# Altium footprint library Pattern No3d 20090609.PcbLib: 323 footprints (part 22 of 22)
Each footprint in its own frame and in the unit in brackets; x right, y up, seen from the top. Pads: shape width x height; smd on the part's side, far side on the other; paste and mask are expansions set on the pad; w line width, h text height; cw(c..) or ccw(c..) is an arc to the next point about the centre after c.
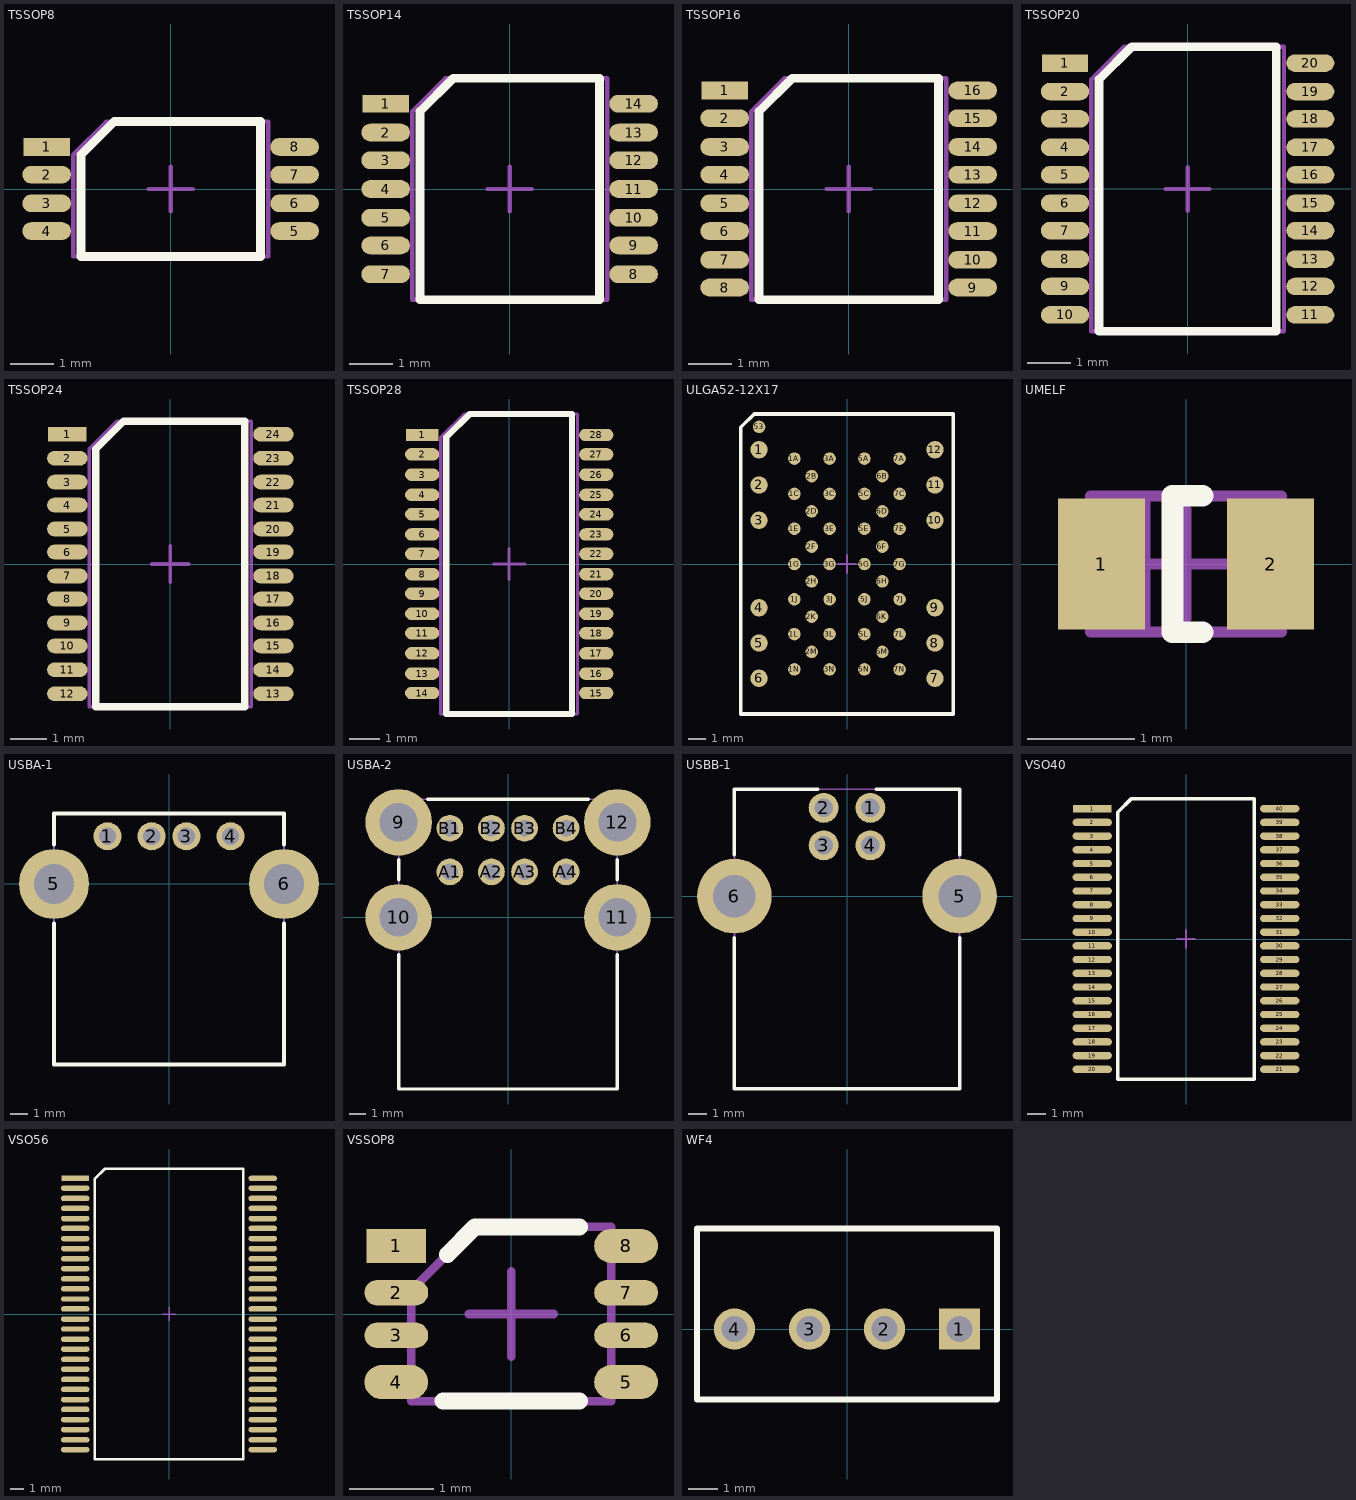
[diagram p21: the footprints below, top view; thin cyan lines are the x and y axes]

## TSSOP8 [mil] "http://www.nxp.com/acrobat_download/packages/SOT530-1.pdf"
pads (8):
  rect 42x16 smd mask-1000: 1(-112,38)
  oval 44x16 smd mask-1000: 2(-112,13) 3(-112,-13) 4(-112,-38) 5(112,-38) 6(112,-13) 7(112,13) 8(112,38)
Top Overlay:
  lines w8: -81,-61 -81,31 -51,61 81,61 81,-61 -81,-61
Top Solder:
  region: -137,29 -87,29 -87,49 -137,49
  lines w18: -129,-13 -95,-13 ; -129,13 -95,13 ; 95,-13 129,-13 ; 95,13 129,13
  lines w20: -128,-39 -96,-39 ; 96,-39 128,-39 ; 96,39 128,39
Mechanical 1:
  lines w4: -88,-61 -88,31 -58,61 88,61 88,-61 -88,-61
Mechanical 15:
  lines w4: -20,0 20,0 ; 0,-20 0,20

## TSSOP14 [mil] "http://www.nxp.com/acrobat_download/packages/SOT402-1.pdf"
pads (14):
  rect 42x16 smd mask-1000: 1(-112,77)
  oval 44x16 smd mask-1000: 2(-112,51) 3(-112,26) 4(-112,0) 5(-112,-26) 6(-112,-51) 7(-112,-77) 8(112,-77) 9(112,-51) 10(112,-26) 11(112,0) 12(112,26) 13(112,51) 14(112,77)
Top Overlay:
  lines w8: -81,-100 -81,70 -51,100 81,100 81,-100 -81,-100
Top Solder:
  region: -137,68 -87,68 -87,88 -137,88
  lines w18: -129,-51 -95,-51 ; -129,-26 -95,-26 ; -129,0 -95,0 ; -129,26 -95,26 ; -129,51 -95,51 ; 95,-51 129,-51 ; 95,-26 129,-26 ; 95,0 129,0 ; 95,26 129,26 ; 95,51 129,51
  lines w20: -128,-78 -96,-78 ; 96,-78 128,-78 ; 96,78 128,78
Mechanical 1:
  lines w4: -88,-100 -88,70 -58,100 88,100 88,-100 -88,-100
Mechanical 15:
  lines w4: -20,0 20,0 ; 0,-20 0,20

## TSSOP16 [mil] "http://www.nxp.com/acrobat_download/packages/SOT403-1.pdf"
pads (16):
  rect 42x16 smd mask-1000: 1(-112,89)
  oval 44x16 smd mask-1000: 2(-112,64) 3(-112,38) 4(-112,13) 5(-112,-13) 6(-112,-38) 7(-112,-64) 8(-112,-89) 9(112,-89) 10(112,-64) 11(112,-38) 12(112,-13) 13(112,13) 14(112,38) 15(112,64) 16(112,89)
Top Overlay:
  lines w8: -81,-100 81,-100 81,100 -51,100 -81,70 -81,-100
Top Solder:
  region: -137,80 -87,80 -87,100 -137,100
  lines w18: -129,-64 -95,-64 ; -129,-38 -95,-38 ; -129,-13 -95,-13 ; -129,13 -95,13 ; -129,38 -95,38 ; -129,64 -95,64 ; 95,-64 129,-64 ; 95,-38 129,-38 ; 95,-13 129,-13 ; 95,13 129,13 ; 95,38 129,38 ; 95,64 129,64
  lines w20: -128,-90 -96,-90 ; 96,-90 128,-90 ; 96,90 128,90
Mechanical 1:
  lines w4: -88,-100 88,-100 88,100 -58,100 -88,70 -88,-100
Mechanical 15:
  lines w4: -20,0 20,0 ; 0,-20 0,20

## TSSOP20 [mil] "http://www.nxp.com/acrobat_download/packages/SOT360-1.pdf"
pads (20):
  rect 42x16 smd mask-1000: 1(-112,115)
  oval 44x16 smd mask-1000: 2(-112,89) 3(-112,64) 4(-112,38) 5(-112,13) 6(-112,-13) 7(-112,-38) 8(-112,-64) 9(-112,-89) 10(-112,-115) 11(112,-115) 12(112,-89) 13(112,-64) 14(112,-38) 15(112,-13) 16(112,13) 17(112,38) 18(112,64) 19(112,89) 20(112,115)
Top Overlay:
  lines w8: -81,-130 -81,100 -51,130 81,130 81,-130 -81,-130
Top Solder:
  region: -137,106 -87,106 -87,126 -137,126
  lines w18: -129,-89 -95,-89 ; -129,-64 -95,-64 ; -129,-38 -95,-38 ; -129,-13 -95,-13 ; -129,13 -95,13 ; -129,38 -95,38 ; -129,64 -95,64 ; -129,89 -95,89 ; 95,-89 129,-89 ; 95,-64 129,-64 ; 95,-38 129,-38 ; 95,-13 129,-13 ; 95,13 129,13 ; 95,38 129,38 ; 95,64 129,64 ; 95,89 129,89
  lines w20: -128,-116 -96,-116 ; 96,-116 128,-116 ; 96,116 128,116
Mechanical 1:
  lines w4: -88,-130 -88,100 -58,130 88,130 88,-130 -88,-130
Mechanical 15:
  lines w4: -20,0 20,0 ; 0,-20 0,20

## TSSOP24 [mil] "http://www.nxp.com/acrobat_download/packages/SOT355-1.pdf"
pads (24):
  rect 42x16 smd mask-1000: 1(-112,141)
  oval 44x16 smd mask-1000: 2(-112,115) 3(-112,89) 4(-112,64) 5(-112,38) 6(-112,13) 7(-112,-13) 8(-112,-38) 9(-112,-64) 10(-112,-89) 11(-112,-115) 12(-112,-141) 13(112,-141) 14(112,-115) 15(112,-89) 16(112,-64) 17(112,-38) 18(112,-13) 19(112,13) 20(112,38) 21(112,64) 22(112,89) 23(112,115) 24(112,141)
Top Overlay:
  lines w8: -81,-155 -81,125 -51,155 81,155 81,-155 -81,-155
Top Solder:
  region: -137,132 -87,132 -87,152 -137,152
  lines w18: -129,-115 -95,-115 ; -129,-89 -95,-89 ; -129,-64 -95,-64 ; -129,-38 -95,-38 ; -129,-13 -95,-13 ; -129,13 -95,13 ; -129,38 -95,38 ; -129,64 -95,64 ; -129,89 -95,89 ; -129,115 -95,115 ; 95,-115 129,-115 ; 95,-89 129,-89 ; 95,-64 129,-64 ; 95,-38 129,-38 ; 95,-13 129,-13 ; 95,13 129,13 ; 95,38 129,38 ; 95,64 129,64 ; 95,89 129,89 ; 95,115 129,115
  lines w20: -128,-142 -96,-142 ; 96,-142 128,-142 ; 96,142 128,142
Mechanical 1:
  lines w4: -88,-155 -88,125 -58,155 88,155 88,-155 -88,-155
Mechanical 15:
  lines w4: -20,0 20,0 ; 0,-20 0,20

## TSSOP28 [mil] "http://www.nxp.com/acrobat_download/packages/SOT361-1.pdf"
pads (28):
  rect 42x16 smd mask-1000: 1(-112,166)
  oval 44x16 smd mask-1000: 2(-112,141) 3(-112,115) 4(-112,89) 5(-112,64) 6(-112,38) 7(-112,13) 8(-112,-13) 9(-112,-38) 10(-112,-64) 11(-112,-89) 12(-112,-115) 13(-112,-141) 14(-112,-166) 15(112,-166) 16(112,-141) 17(112,-115) 18(112,-89) 19(112,-64) 20(112,-38) 21(112,-13) 22(112,13) 23(112,38) 24(112,64) 25(112,89) 26(112,115) 27(112,141) 28(112,166)
Top Overlay:
  lines w8: -81,-193 -81,163 -51,193 81,193 81,-193 -81,-193
Top Solder:
  region: -137,157 -87,157 -87,177 -137,177
  lines w18: -129,-141 -95,-141 ; -129,-115 -95,-115 ; -129,-89 -95,-89 ; -129,-64 -95,-64 ; -129,-38 -95,-38 ; -129,-13 -95,-13 ; -129,13 -95,13 ; -129,38 -95,38 ; -129,64 -95,64 ; -129,89 -95,89 ; -129,115 -95,115 ; -129,141 -95,141 ; 95,-141 129,-141 ; 95,-115 129,-115 ; 95,-89 129,-89 ; 95,-64 129,-64 ; 95,-38 129,-38 ; 95,-13 129,-13 ; 95,13 129,13 ; 95,38 129,38 ; 95,64 129,64 ; 95,89 129,89 ; 95,115 129,115 ; 95,141 129,141
  lines w20: -128,-167 -96,-167 ; 96,-167 128,-167 ; 96,167 128,167
Mechanical 1:
  lines w4: -88,-193 -88,163 -58,193 88,193 88,-193 -88,-193
Mechanical 15:
  lines w4: -20,0 20,0 ; 0,-20 0,20

## ULGA52-12X17 [mil] "http://www.samsung.com/global/system/business/semiconductor/package/2008/8/18/68150852_ULGA_1217.pdf"
pads (53):
  round 39 smd mask+3: 1(-197,256) 2(-197,177) 3(-197,98) 4(-197,-98) 5(-197,-177) 6(-197,-256) 7(197,-256) 8(197,-177) 9(197,-98) 10(197,98) 11(197,177) 12(197,256)
  round 28 smd mask+3: 1A(-118,236) 1C(-118,157) 1E(-118,79) 1G(-118,0) 1J(-118,-79) 1L(-118,-157) 1N(-118,-236) 2B(-79,197) 2D(-79,118) 2F(-79,39) 2H(-79,-39) 2K(-79,-118) 2M(-79,-197) 3A(-39,236) 3C(-39,157) 3E(-39,79) 3G(-39,0) 3J(-39,-79) 3L(-39,-157) 3N(-39,-236) 5A(39,236) 5C(39,157) 5E(39,79) 5G(39,0) 5J(39,-79) 5L(39,-157) 5N(39,-236) 6B(79,197) 6D(79,118) 6F(79,39) 6H(79,-39) 6K(79,-118) 6M(79,-197) 7A(118,236) 7C(118,157) 7E(118,79) 7G(118,0) 7J(118,-79) 7L(118,-157) 7N(118,-236) 53(-197,307)
Top Overlay:
  lines w8: -238,-336 -238,306 -208,336 238,336 238,-336 -238,-336
Mechanical 1:
  lines w4: -238,-336 -238,306 -208,336 238,336 238,-336 -238,-336
Mechanical 15:
  lines w4: -20,0 20,0 ; 0,-20 0,20

## UMELF [mil] "http://www.vishay.com/docs/84024/micrmelf.pdf"
pads (2):
  rect 32x48 smd mask+4: 1(-31,0) 2(31,0)
Top Overlay:
  lines w8: 6,-25 -5,-25 -5,25 6,25
Mechanical 1:
  lines w4: -15,-25 -15,25 ; -35,-25 35,-25 35,25 -35,25 -35,-25
Mechanical 15:
  lines w4: -20,0 20,0 ; 0,-20 0,20

## USBA-1 [mil] "http://ecommas.tycoelectronics.com/commerce/DocumentDelivery/DDEController?Action=showdoc&DocId=Customer+Drawing%7F292303%7FE2%7Fpdf%7FEnglish%7FENG_CD_292303_E2.pdf"
pads (6):
  round 63 / inner round 63 / far side oval 63x83 hole 39 mask+4: 1(-138,107) 2(-39,107) 3(39,107) 4(138,107)
  round 157 hole 90 mask+4: 5(-258,0) 6(258,0)
Top Overlay:
  lines w8: -258,-88 -258,-405 258,-405 258,-88 ; -258,88 -258,158 258,158 258,88
Mechanical 1:
  lines w4: -258,-405 258,-405 258,158 -258,158 -258,-405

## USBA-2 [mil] "http://ecommas.tycoelectronics.com/commerce/DocumentDelivery/DDEController?Action=showdoc&DocId=Customer+Drawing%7F5787617%7FC%7Fpdf%7FEnglish%7FENG_CD_5787617_C.pdf"
pads (12):
  round 157 hole 90 mask+4: 9(-258,224) 10(-258,0) 11(258,0) 12(258,224)
  round 63 / inner round 63 / far side oval 63x83 hole 39 mask+4: A1(-137,107) A2(-39,107) A3(39,107) A4(137,107) B1(-137,210) B2(-39,210) B3(39,210) B4(137,210)
Top Overlay:
  lines w8: -258,-88 -258,-405 258,-405 258,-88 ; -258,88 -258,136 ; -189,278 189,278 ; 258,88 258,136
Mechanical 1:
  lines w4: -258,-405 258,-405 258,278 -258,278 -258,-405

## USBB-1 [mil] "http://ecommas.tycoelectronics.com/commerce/DocumentDelivery/DDEController?Action=showdoc&DocId=Customer+Drawing%7F292304%7FD2%7Fpdf%7FEnglish%7FENG_CD_292304_D2.pdf"
pads (6):
  round 63 / inner round 63 / far side oval 83x63 hole 39 mask+4: 1(49,186) 2(-49,186) 3(-49,107) 4(49,107)
  round 157 hole 90 mask+4: 5(237,0) 6(-237,0)
Top Overlay:
  lines w8: -237,-88 -237,-405 237,-405 237,-88 ; -237,88 -237,225 -62,225 ; 62,225 237,225 237,88
Mechanical 1:
  lines w4: -237,-405 237,-405 237,225 -237,225 -237,-405

## VSO40 [mil] "http://www.nxp.com/acrobat_download/packages/SOT158-1.pdf"
pads (40):
  rect 84x16 smd mask+3: 1(-205,285)
  oval 86x16 smd mask+3: 2(-205,255) 3(-205,225) 4(-205,195) 5(-205,165) 6(-205,135) 7(-205,105) 8(-205,75) 9(-205,45) 10(-205,15) 11(-205,-15) 12(-205,-45) 13(-205,-75) 14(-205,-105) 15(-205,-135) 16(-205,-165) 17(-205,-195) 18(-205,-225) 19(-205,-255) 20(-205,-285) 21(205,-285) 22(205,-255) 23(205,-225) 24(205,-195) 25(205,-165) 26(205,-135) 27(205,-105) 28(205,-75) 29(205,-45) 30(205,-15) 31(205,15) 32(205,45) 33(205,75) 34(205,105) 35(205,135) 36(205,165) 37(205,195) 38(205,225) 39(205,255) 40(205,285)
Top Overlay:
  lines w8: -149,-307 149,-307 149,307 -119,307 -149,277 -149,-307
Mechanical 1:
  lines w4: -149,-307 149,-307 149,307 -119,307 -149,277 -149,-307
Mechanical 15:
  lines w4: -20,0 20,0 ; 0,-20 0,20

## VSO56 [mil] "http://www.nxp.com/acrobat_download/packages/SOT190-1.pdf"
pads (56):
  rect 82x16 smd mask+3: 1(-275,398)
  oval 84x16 smd mask+3: 2(-275,369) 3(-275,339) 4(-275,310) 5(-275,280) 6(-275,251) 7(-275,221) 8(-275,192) 9(-275,162) 10(-275,133) 11(-275,103) 12(-275,74) 13(-275,44) 14(-275,15) 15(-275,-15) 16(-275,-44) 17(-275,-74) 18(-275,-103) 19(-275,-133) 20(-275,-162) 21(-275,-192) 22(-275,-221) 23(-275,-251) 24(-275,-280) 25(-275,-310) 26(-275,-339) 27(-275,-369) 28(-275,-398) 29(275,-398) 30(275,-369) 31(275,-339) 32(275,-310) 33(275,-280) 34(275,-251) 35(275,-221) 36(275,-192) 37(275,-162) 38(275,-133) 39(275,-103) 40(275,-74) 41(275,-44) 42(275,-15) 43(275,15) 44(275,44) 45(275,74) 46(275,103) 47(275,133) 48(275,162) 49(275,192) 50(275,221) 51(275,251) 52(275,280) 53(275,310) 54(275,339) 55(275,369) 56(275,398)
Top Overlay:
  lines w8: -218,-426 218,-426 218,426 -188,426 -218,396 -218,-426
Mechanical 1:
  lines w4: -218,-426 218,-426 218,426 -188,426 -218,396 -218,-426
Mechanical 15:
  lines w4: -20,0 20,0 ; 0,-20 0,20

## VSSOP8 [mil] "http://www.nxp.com/acrobat_download/packages/SOT765-1.pdf"
pads (8):
  rect 28x16 smd mask-1000: 1(-54,32)
  oval 30x12 smd mask-1000: 2(-54,10) 3(-54,-10) 6(54,-10) 7(54,10)
  oval 30x16 smd mask-1000: 4(-54,-32) 5(54,-32) 8(54,32)
Top Overlay:
  lines w8: -32,-41 32,-41 ; -30,28 -17,41 32,41
Top Solder:
  region: -72,23 -36,23 -36,43 -72,43
  lines w14: -66,-10 -42,-10 ; -66,10 -42,10 ; 42,-10 66,-10 ; 42,10 66,10
  lines w20: -63,-33 -45,-33 ; 45,-33 63,-33 ; 45,33 63,33
Mechanical 1:
  lines w4: -47,-41 -47,11 -17,41 47,41 47,-41 -47,-41
Mechanical 15:
  lines w4: -20,0 20,0 ; 0,-20 0,20

## WF4 [mil] "http://www.connfly.com/uploadfiles/DS1070.pdf (Male V/T TYPE N=4)"
pads (4):
  rect 55x55 hole 35 mask+4: 1(150,0)
  round 55 hole 35 mask+4: 2(50,0) 3(-50,0) 4(-150,0)
Top Overlay:
  lines w8: -200,-94 -200,134 200,134 200,-94 -200,-94
Mechanical 1:
  lines w4: -200,-94 -200,134 200,134 200,-94 -200,-94